# EAGLE library part HDR_46_F_2_0.1_0.1_HEADER23X2_F (library BeagleBone_Black_egl)
HDR_46_F_2_0.1_0.1_HEADER23X2_F
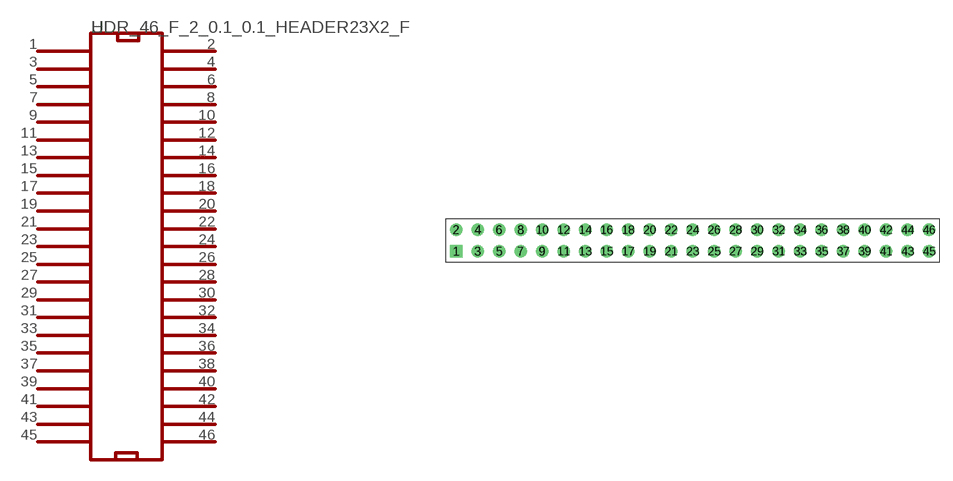
[diagram p5: symbol with the pads of HEADER23X2; footprint HEADER23X2]

Designator prefix -

## HDR_46_F_2_0.1_0.1_HEADER23X2_F  [HEADER23X2]
1  24
2  1
3  25
4  2
5  26
6  3
7  27
8  4
9  28
10  5
11  29
12  6
13  30
14  7
15  31
16  8
17  32
18  9
19  33
20  10
21  34
22  11
23  35
24  12
25  36
26  13
27  37
28  14
29  38
30  15
31  39
32  16
33  40
34  17
35  41
36  18
37  42
38  19
39  43
40  20
41  44
42  21
43  45
44  22
45  46
46  23

## Footprint HEADER23X2 (pad centres in mm)
drill 0.762 pad 1.524 square: 1 0,0
drill 0.762 pad 1.524: 2 0,2.54; 3 2.54,0; 4 2.54,2.54; 5 5.08,0; 6 5.08,2.54; 7 7.62,0; 8 7.62,2.54; 9 10.16,0; 10 10.16,2.54; 11 12.7,0; 12 12.7,2.54; 13 15.24,0; 14 15.24,2.54; 15 17.78,0; 16 17.78,2.54; 17 20.32,0; 18 20.32,2.54; 19 22.86,0; 20 22.86,2.54; 21 25.4,0; 22 25.4,2.54; 23 27.94,0; 24 27.94,2.54; 25 30.48,0; 26 30.48,2.54; 27 33.02,0; 28 33.02,2.54; 29 35.56,0; 30 35.56,2.54; 31 38.1,0; 32 38.1,2.54; 33 40.64,0; 34 40.64,2.54; 35 43.18,0; 36 43.18,2.54; 37 45.72,0; 38 45.72,2.54; 39 48.26,0; 40 48.26,2.54; 41 50.8,0; 42 50.8,2.54; 43 53.34,0; 44 53.34,2.54; 45 55.88,0; 46 55.88,2.54